# Altium footprint library Led.PcbLib: 54 footprints (part 4 of 4)
Each footprint in its own frame and in the unit in brackets; x right, y up, seen from the top. Pads: shape width x height; smd on the part's side, far side on the other; paste and mask are expansions set on the pad; w line width, h text height; cw(c..) or ccw(c..) is an arc to the next point about the centre after c.
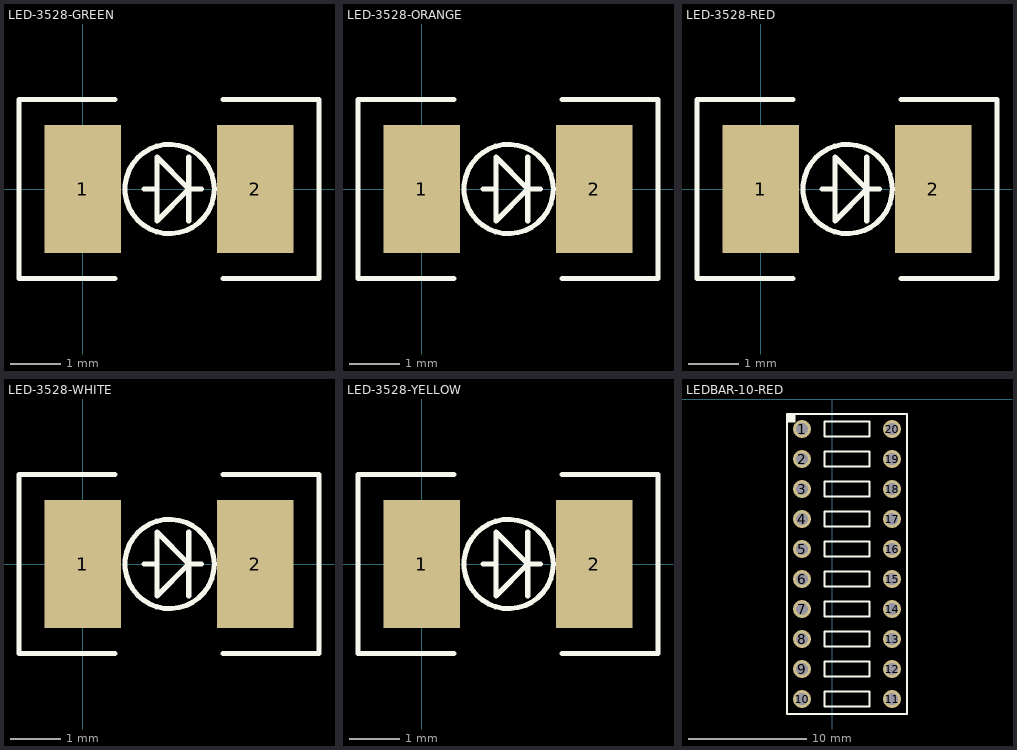
[diagram p3: the footprints below, top view; thin cyan lines are the x and y axes]

## LED-3528-GREEN [mil]
pads (2):
  rect 60x100 smd: 1(0,0) 2(135,0)
Top Overlay:
  circle w4: c68,0 r35
  lines w4: 25,-70 -50,-70 -50,70 25,70 ; 83,-25 83,0 ; 83,25 83,0 ; 93,0 83,0 ; 110,-70 185,-70 185,70 110,70 ; 58,0 48,0 58,0 ; 58,0 58,25 83,0 ; 58,0 58,-25 83,0
3D body: height 61, standoff 60, extent -2.8,-60 20,-37.2
3D body: height 70, standoff 60, extent 30,-40 110,40
3D body: height 60, standoff 15, extent -2.8,-60 137.4,60
3D body: height 19.68, standoff 0, extent 40,-60 95,60
3D body: height 43.31, standoff 0, extent -19.53,-31.5 -7.72,32.48
3D body: height 43.31, standoff 27.56, extent -19.53,-31.5 -2.8,32.48
3D body: height 11.81, standoff 0, extent -19.53,-31.5 18.86,32.48
3D body: height 11.81, standoff 0, extent 115.75,-31.5 154.13,32.48
3D body: height 43.31, standoff 27.56, extent 137.4,-31.5 154.13,32.48
3D body: height 43.31, standoff 0, extent 142.32,-31.5 154.13,32.48
3D body: height 75, standoff 60, extent -2.8,-60 137.4,60
3D body: height 65, standoff 60, extent 60,-10 75,5
3D body: height 61, standoff 60, extent 54.69,-36.96 110.35,36.96
3D body: height 61, standoff 60, extent 30,-10 50,5

## LED-3528-ORANGE [mil]
pads (2):
  rect 60x100 smd: 1(0,0) 2(135,0)
Top Overlay:
  circle w4: c68,0 r35
  lines w4: 25,-70 -50,-70 -50,70 25,70 ; 83,-25 83,0 ; 83,25 83,0 ; 93,0 83,0 ; 110,-70 185,-70 185,70 110,70 ; 58,0 48,0 58,0 ; 58,0 58,25 83,0 ; 58,0 58,-25 83,0
3D body: height 61, standoff 60, extent -2.8,-60 20,-37.2
3D body: height 70, standoff 60, extent 30,-40 110,40
3D body: height 60, standoff 15, extent -2.8,-60 137.4,60
3D body: height 19.68, standoff 0, extent 40,-60 95,60
3D body: height 43.31, standoff 0, extent -19.53,-31.5 -7.72,32.48
3D body: height 43.31, standoff 27.56, extent -19.53,-31.5 -2.8,32.48
3D body: height 11.81, standoff 0, extent -19.53,-31.5 18.86,32.48
3D body: height 11.81, standoff 0, extent 115.75,-31.5 154.13,32.48
3D body: height 43.31, standoff 27.56, extent 137.4,-31.5 154.13,32.48
3D body: height 43.31, standoff 0, extent 142.32,-31.5 154.13,32.48
3D body: height 75, standoff 60, extent -2.8,-60 137.4,60
3D body: height 65, standoff 60, extent 60,-10 75,5
3D body: height 61, standoff 60, extent 54.69,-36.96 110.35,36.96
3D body: height 61, standoff 60, extent 30,-10 50,5

## LED-3528-RED [mil]
pads (2):
  rect 60x100 smd: 1(0,0) 2(135,0)
Top Overlay:
  circle w4: c68,0 r35
  lines w4: 25,-70 -50,-70 -50,70 25,70 ; 83,-25 83,0 ; 83,25 83,0 ; 93,0 83,0 ; 110,-70 185,-70 185,70 110,70 ; 58,0 48,0 58,0 ; 58,0 58,25 83,0 ; 58,0 58,-25 83,0
3D body: height 61, standoff 60, extent -2.8,-60 20,-37.2
3D body: height 70, standoff 60, extent 30,-40 110,40
3D body: height 60, standoff 15, extent -2.8,-60 137.4,60
3D body: height 19.68, standoff 0, extent 40,-60 95,60
3D body: height 43.31, standoff 0, extent -19.53,-31.5 -7.72,32.48
3D body: height 43.31, standoff 27.56, extent -19.53,-31.5 -2.8,32.48
3D body: height 11.81, standoff 0, extent -19.53,-31.5 18.86,32.48
3D body: height 11.81, standoff 0, extent 115.75,-31.5 154.13,32.48
3D body: height 43.31, standoff 27.56, extent 137.4,-31.5 154.13,32.48
3D body: height 43.31, standoff 0, extent 142.32,-31.5 154.13,32.48
3D body: height 75, standoff 60, extent -2.8,-60 137.4,60
3D body: height 65, standoff 60, extent 60,-10 75,5
3D body: height 61, standoff 60, extent 54.69,-36.96 110.35,36.96
3D body: height 61, standoff 60, extent 30,-10 50,5

## LED-3528-WHITE [mil]
pads (2):
  rect 60x100 smd: 1(0,0) 2(135,0)
Top Overlay:
  circle w4: c68,0 r35
  lines w4: 25,-70 -50,-70 -50,70 25,70 ; 83,-25 83,0 ; 83,25 83,0 ; 93,0 83,0 ; 110,-70 185,-70 185,70 110,70 ; 58,0 48,0 58,0 ; 58,0 58,25 83,0 ; 58,0 58,-25 83,0
3D body: height 61, standoff 60, extent -2.8,-60 20,-37.2
3D body: height 70, standoff 60, extent 30,-40 110,40
3D body: height 60, standoff 15, extent -2.8,-60 137.4,60
3D body: height 19.68, standoff 0, extent 40,-60 95,60
3D body: height 43.31, standoff 0, extent -19.53,-31.5 -7.72,32.48
3D body: height 43.31, standoff 27.56, extent -19.53,-31.5 -2.8,32.48
3D body: height 11.81, standoff 0, extent -19.53,-31.5 18.86,32.48
3D body: height 11.81, standoff 0, extent 115.75,-31.5 154.13,32.48
3D body: height 43.31, standoff 27.56, extent 137.4,-31.5 154.13,32.48
3D body: height 43.31, standoff 0, extent 142.32,-31.5 154.13,32.48
3D body: height 75, standoff 60, extent -2.8,-60 137.4,60
3D body: height 65, standoff 60, extent 60,-10 75,5
3D body: height 61, standoff 60, extent 54.69,-36.96 110.35,36.96
3D body: height 61, standoff 60, extent 30,-10 50,5

## LED-3528-YELLOW [mil]
pads (2):
  rect 60x100 smd: 1(0,0) 2(135,0)
Top Overlay:
  circle w4: c68,0 r35
  lines w4: 25,-70 -50,-70 -50,70 25,70 ; 83,-25 83,0 ; 83,25 83,0 ; 93,0 83,0 ; 110,-70 185,-70 185,70 110,70 ; 58,0 48,0 58,0 ; 58,0 58,25 83,0 ; 58,0 58,-25 83,0
3D body: height 61, standoff 60, extent -2.8,-60 20,-37.2
3D body: height 70, standoff 60, extent 30,-40 110,40
3D body: height 60, standoff 15, extent -2.8,-60 137.4,60
3D body: height 19.68, standoff 0, extent 40,-60 95,60
3D body: height 43.31, standoff 0, extent -19.53,-31.5 -7.72,32.48
3D body: height 43.31, standoff 27.56, extent -19.53,-31.5 -2.8,32.48
3D body: height 11.81, standoff 0, extent -19.53,-31.5 18.86,32.48
3D body: height 11.81, standoff 0, extent 115.75,-31.5 154.13,32.48
3D body: height 43.31, standoff 27.56, extent 137.4,-31.5 154.13,32.48
3D body: height 43.31, standoff 0, extent 142.32,-31.5 154.13,32.48
3D body: height 75, standoff 60, extent -2.8,-60 137.4,60
3D body: height 65, standoff 60, extent 60,-10 75,5
3D body: height 61, standoff 60, extent 54.69,-36.96 110.35,36.96
3D body: height 61, standoff 60, extent 30,-10 50,5

## LEDBAR-10-RED [mil]
pads (20):
  round 60 hole 40 unplated mask+2: 1(-100,-100) 2(-100,-200) 3(-100,-300) 4(-100,-400) 5(-100,-500) 6(-100,-600) 7(-100,-700) 8(-100,-800) 9(-100,-900) 10(-100,-1000) 11(200,-1000) 12(200,-900) 13(200,-800) 14(200,-700) 15(200,-600) 16(200,-500) 17(200,-400) 18(200,-300) 19(200,-200) 20(200,-100)
Top Overlay:
  rectangle: -150,-75 -125,-50
  lines w6: -150,-75 -125,-75 -125,-50 ; -150,-1050 -150,-50 250,-50 250,-1050 -150,-1050 ; -25,-1025 -25,-975 125,-975 125,-1025 -25,-1025 ; -25,-925 125,-925 125,-875 -25,-875 -25,-925 ; -25,-825 -25,-775 125,-775 125,-825 -25,-825 ; -25,-725 125,-725 125,-675 -25,-675 -25,-725 ; -25,-625 125,-625 125,-575 -25,-575 -25,-625 ; -25,-525 -25,-475 125,-475 125,-525 -25,-525 ; -25,-425 125,-425 125,-375 -25,-375 -25,-425 ; -25,-325 -25,-275 125,-275 125,-325 -25,-325 ; -25,-225 125,-225 125,-175 -25,-175 -25,-225 ; -25,-125 -25,-75 125,-75 125,-125 -25,-125
3D body "DC-10.STEP": height 325, standoff -147.44, extent -150,-1050 250,-50